# Altium schematic symbol library WCAP-CSGP_0603_X5R.SchLib: 2 symbols
Pins are listed as number, name and electrical type; pins without a type are passive.

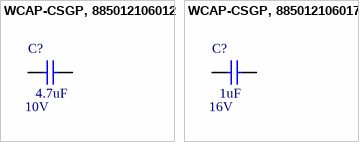
[diagram p0: symbols WCAP-CSGP, 885012106012 to WCAP-CSGP, 885012106017]

## WCAP-CSGP, 885012106012
designator C?, comment 4.7uF  RatedVoltage: 10V
CAP CER 4.7UF 10V X5R 0603; Manufacturer: Wurth Elektronik; Manufacturer Part Number: 885012106012; PublishedDate: Aug 2016; ComponentLink1Description: Manufacturer; ComponentLink1URL: http://www.we-online.de; ComponentLink2Description: Datasheet; ComponentLink2URL: http://katalog.we-online.com/pbs/datasheet/885012106012.pdf; Value: 4.7uF; Size: 0603; CeramicType: X5R
footprint WCAP-CSGP_0603, 1.6x0.8x0.8
pins: 1, 2

## WCAP-CSGP, 885012106017
designator C?, comment 1uF  RatedVoltage: 16V
CAP CER 1UF 16V X5R 0603; Manufacturer: Wurth Elektronik; Manufacturer Part Number: 885012106017; PublishedDate: Aug 2016; ComponentLink1Description: Manufacturer; ComponentLink1URL: http://www.we-online.de; ComponentLink2Description: Datasheet; ComponentLink2URL: http://katalog.we-online.com/pbs/datasheet/885012106017.pdf; Value: 1uF; Size: 0603; CeramicType: X5R
footprint WCAP-CSGP_0603, 1.6x0.8x0.8
pins: 1, 2